# EAGLE library part MKW40-DUAL-OUTPUT (library MinMax DC-DC Converters)
MKW40-DUAL-OUTPUT This is for the dual output variants of this series. MINMAX MKW40 Series. DC-DC Converter 40W, Regulated Output, 2"x1"
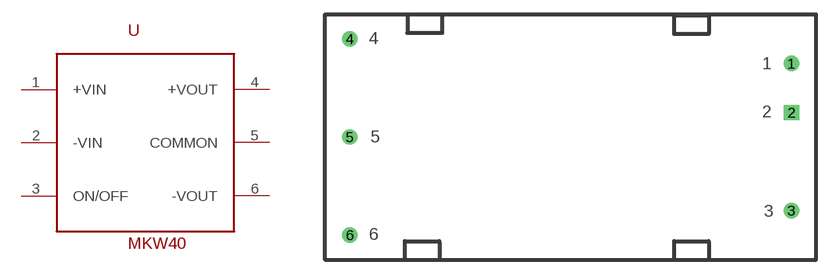
[diagram p3: symbol with the pads of 2"X1"; footprint 2"X1"]

Designator prefix -

## MKW40-DUAL-OUTPUT  [2"X1"]
1  +VIN
2  -VIN
3  ON/OFF
4  +VOUT
5  COMMON
6  -VOUT

## Footprint 2"X1" (pad centres in mm)
MINMAX MDKW40 Series. Size: 2" x 1"
drill 1.05: 1 48.26,20.32; 3 48.26,5.08; 4 2.54,22.86; 5 2.54,12.7; 6 2.54,2.54
drill 1.05 square: 2 48.26,15.24